# Altium schematic symbol library MCP48FVFxx.SchLib: 1 symbol
Pins are listed as number, name and electrical type; pins without a type are passive.

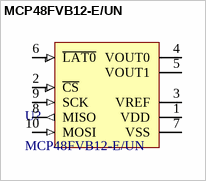
[diagram p0: symbol MCP48FVB12-E/UN]

## MCP48FVB12-E/UN
designator U?
Manufacturer 1: Microchip Technology; Manufacturer Part Number 1: MCP48FVB12-E/UN; Type: MCP48FVB12-E/UN
footprint MSOP-10_0.5_C
pins: 1 VDD (power), 2 ~{CS} (in), 3 VREF, 4 VOUT0, 5 VOUT1, 6 ~{LAT0} (in), 7 VSS (power), 8 MISO (out), 9 SCK (in), 10 MOSI (in)